# Altium footprint library SMD Magnetics.PcbLib: 48 footprints (part 1 of 3)
Each footprint in its own frame and in the unit in brackets; x right, y up, seen from the top. Pads: shape width x height; smd on the part's side, far side on the other; paste and mask are expansions set on the pad; w line width, h text height; cw(c..) or ccw(c..) is an arc to the next point about the centre after c.
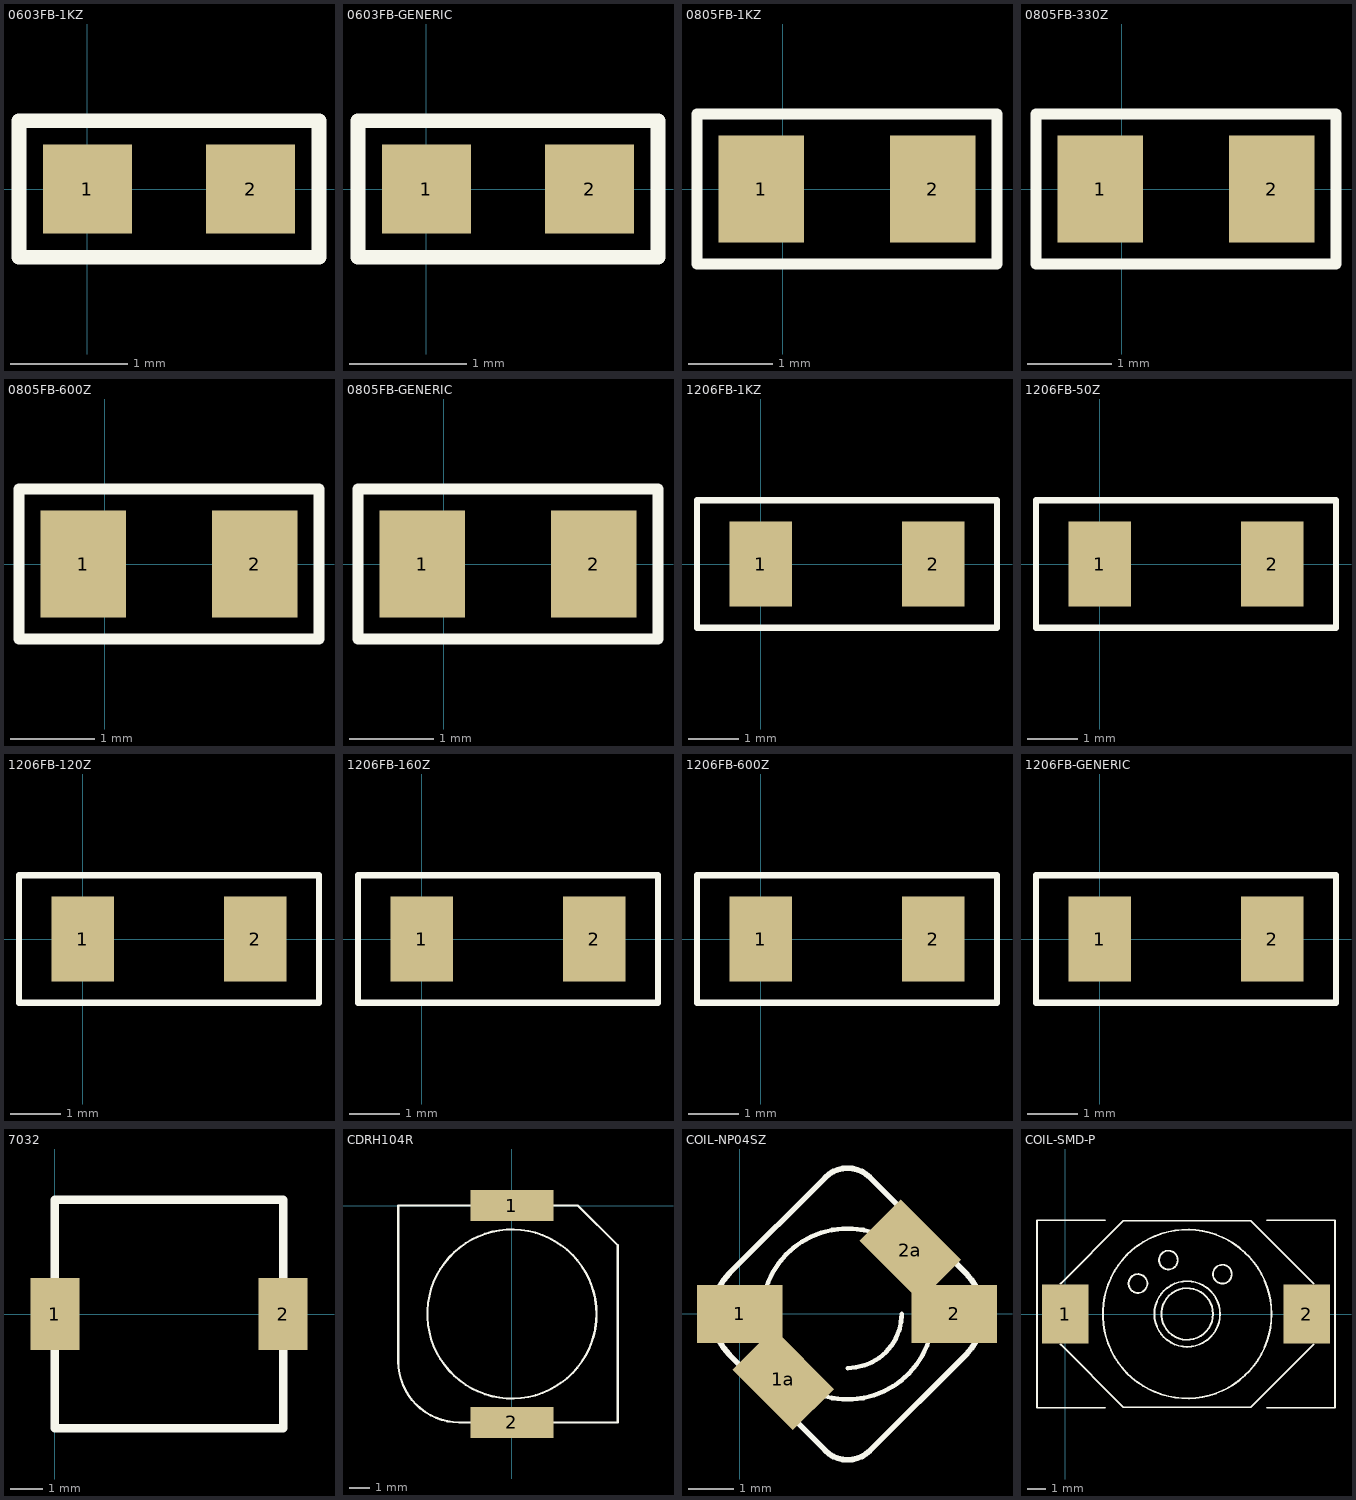
[diagram p0: the footprints below, top view; thin cyan lines are the x and y axes]

## 0603FB-1KZ [mil] "FERRITE BEAD 0603"
pads (2):
  rect 30x30 smd: 1(0,0) 2(55,0)
Top Overlay:
  lines w5: -23,-23 -23,23 78,23 78,-23 -23,-23
3D body: height 20, standoff 19, extent 16.5,-5 21.5,5
3D body: height 20, standoff 19, extent 31.5,-5 36.5,5
3D body: height 20, standoff 19, extent 24,-5 29,5
3D body: height 19, standoff 0, extent -4,-15 12,15
3D body: height 19, standoff 0, extent 43,-15 59,15
3D body: height 18, standoff 0, extent -3,-14 58,14

## 0603FB-GENERIC [mil] "FERRITE BEAD 0603"
pads (2):
  rect 30x30 smd: 1(0,0) 2(55,0)
Top Overlay:
  lines w5: -23,-23 78,-23 78,23 -23,23 -23,-23
3D body: height 20, standoff 19, extent 14.5,-10.5 19.5,-0.5
3D body: height 20, standoff 19, extent 22,-10.5 27,-0.5
3D body: height 20, standoff 19, extent 29.5,-10.5 34.5,-0.5
3D body: height 20, standoff 19, extent 7,-10.5 12,-0.5
3D body: height 20, standoff 19, extent 36.5,1.5 41.5,11.5
3D body: height 20, standoff 19, extent 14,1.5 19,11.5
3D body: height 20, standoff 19, extent 6.5,1.5 11.5,11.5
3D body: height 20, standoff 19, extent 21.5,1.5 26.5,11.5
3D body: height 20, standoff 19, extent 29,1.5 34,11.5
3D body: height 20, standoff 19, extent 37,-10.5 42,-0.5
3D body: height 18, standoff 0, extent -3,-14 58,14
3D body: height 19, standoff 0, extent 43,-15 59,15
3D body: height 19, standoff 0, extent -4,-15 12,15
3D body: height 20, standoff 19, extent 44,1.5 49,11.5
3D body: height 20, standoff 19, extent 44,-11 49,-1

## 0805FB-1KZ [mil] "FERRITE BEAD 0805"
pads (2):
  rect 40x50 smd: 1(-10,0) 2(70,0)
Top Overlay:
  lines w5: -40,-35 -40,35 100,35 100,-35 -40,-35
3D body: height 26, standoff 0, extent 54,-25 70,25
3D body: height 26, standoff 0, extent -11,-25 5,25
3D body: height 25, standoff 0, extent -10,-24 69,24
3D body: height 26, standoff 25, extent 27.5,-5.5 32.5,4.5
3D body: height 26, standoff 25, extent 35,-5.5 40,4.5
3D body: height 26, standoff 25, extent 20,-5.5 25,4.5

## 0805FB-330Z [mil] "FERRITE BEAD 0805"
pads (2):
  rect 40x50 smd: 1(-10,0) 2(70,0)
Top Overlay:
  lines w5: -40,-35 100,-35 100,35 -40,35 -40,-35
3D body: height 26, standoff 25, extent 36,-5 41,5
3D body: height 26, standoff 25, extent 21,-5 26,5
3D body: height 26, standoff 25, extent 28.5,-5 33.5,5
3D body: height 25, standoff 0, extent -10,-24 69,24
3D body: height 26, standoff 0, extent -11,-25 5,25
3D body: height 26, standoff 0, extent 54,-25 70,25
3D body: height 26, standoff 25, extent 13.5,-5 18.5,5

## 0805FB-600Z [mil] "FERRITE BEAD 0805"
pads (2):
  rect 40x50 smd: 1(-10,0) 2(70,0)
Top Overlay:
  lines w5: -40,-35 -40,35 100,35 100,-35 -40,-35
3D body: height 26, standoff 25, extent 30,-5.5 35,4.5
3D body: height 26, standoff 0, extent 54,-25 70,25
3D body: height 26, standoff 0, extent -11,-25 5,25
3D body: height 25, standoff 0, extent -10,-24 69,24
3D body: height 26, standoff 25, extent 15,-5.5 20,4.5
3D body: height 26, standoff 25, extent 22.5,-5.5 27.5,4.5
3D body: height 26, standoff 25, extent 37.5,-5.5 42.5,4.5

## 0805FB-GENERIC [mil] "FERRITE BEAD 0805"
pads (2):
  rect 40x50 smd: 1(-10,0) 2(70,0)
Top Overlay:
  lines w5: -40,-35 100,-35 100,35 -40,35 -40,-35
3D body: height 25, standoff 0, extent -10,-24 69,24
3D body: height 26, standoff 0, extent -11,-25 5,25
3D body: height 26, standoff 0, extent 54,-25 70,25
3D body: height 26, standoff 25, extent 18,-12 23,-2
3D body: height 26, standoff 25, extent 25.5,-12 30.5,-2
3D body: height 26, standoff 25, extent 33,-12 38,-2
3D body: height 26, standoff 25, extent 10.5,-12 15.5,-2
3D body: height 26, standoff 25, extent 40,0 45,10
3D body: height 26, standoff 25, extent 17.5,0 22.5,10
3D body: height 26, standoff 25, extent 10,0 15,10
3D body: height 26, standoff 25, extent 25,0 30,10
3D body: height 26, standoff 25, extent 32.5,0 37.5,10
3D body: height 26, standoff 25, extent 40.5,-12 45.5,-2
3D body: height 26, standoff 25, extent 47.5,0 52.5,10
3D body: height 26, standoff 25, extent 47.5,-12.5 52.5,-2.5

## 1206FB-1KZ [mm] "FERRITE BEAD 1206"
pads (2):
  rect 1.25x1.7 smd: 1(0,0) 2(3.429,0)
Top Overlay:
  lines w0.127: -1.27,-1.27 4.699,-1.27 4.699,1.27 -1.27,1.27 -1.27,-1.27
3D body: height 0.81, standoff 0, extent 0.133,-0.8 3.296,0.787
3D body: height 0.84, standoff 0, extent 0.114,-0.813 0.521,0.8
3D body: height 0.84, standoff 0, extent 2.908,-0.813 3.315,0.8
3D body: height 0.84, standoff 0.81, extent 1.27,-0.14 1.46,0.241
3D body: height 0.84, standoff 0.81, extent 1.524,-0.14 1.714,0.241
3D body: height 0.84, standoff 0.81, extent 1.778,-0.14 1.968,0.241

## 1206FB-50Z [mm] "FERRITE BEAD 1206"
pads (2):
  rect 1.25x1.7 smd: 1(0,0) 2(3.429,0)
Top Overlay:
  lines w0.127: -1.27,-1.27 -1.27,1.27 4.699,1.27 4.699,-1.27 -1.27,-1.27
3D body: height 0.84, standoff 0.81, extent 2.235,-0.445 2.426,-0.064
3D body: height 0.84, standoff 0.81, extent 1.943,-0.445 2.134,-0.064
3D body: height 0.84, standoff 0.81, extent 1.689,-0.445 1.88,-0.064
3D body: height 0.84, standoff 0.81, extent 0.927,-0.445 1.118,-0.064
3D body: height 0.84, standoff 0.81, extent 1.435,-0.445 1.626,-0.064
3D body: height 0.84, standoff 0.81, extent 1.714,0 1.905,0.381
3D body: height 0.84, standoff 0.81, extent 1.46,0 1.651,0.381
3D body: height 0.84, standoff 0.81, extent 1.206,0 1.397,0.381
3D body: height 0.84, standoff 0.81, extent 0.953,0 1.143,0.381
3D body: height 0.84, standoff 0.81, extent 1.181,-0.445 1.372,-0.064
3D body: height 0.84, standoff 0, extent 2.908,-0.813 3.315,0.8
3D body: height 0.84, standoff 0, extent 0.114,-0.813 0.521,0.8
3D body: height 0.81, standoff 0, extent 0.133,-0.8 3.296,0.787
3D body: height 0.84, standoff 0.81, extent 1.968,0 2.159,0.381
3D body: height 0.84, standoff 0.81, extent 2.222,0 2.413,0.381

## 1206FB-120Z [mm] "FERRITE BEAD 1206"
pads (2):
  rect 1.25x1.7 smd: 1(0,0) 2(3.429,0)
Top Overlay:
  lines w0.127: -1.27,-1.27 -1.27,1.27 4.699,1.27 4.699,-1.27 -1.27,-1.27
3D body: height 0.84, standoff 0.81, extent 2.235,-0.445 2.426,-0.064
3D body: height 0.84, standoff 0.81, extent 1.943,-0.445 2.134,-0.064
3D body: height 0.84, standoff 0.81, extent 1.689,-0.445 1.88,-0.064
3D body: height 0.84, standoff 0.81, extent 0.927,-0.445 1.118,-0.064
3D body: height 0.84, standoff 0.81, extent 1.435,-0.445 1.626,-0.064
3D body: height 0.84, standoff 0.81, extent 1.714,0 1.905,0.381
3D body: height 0.84, standoff 0.81, extent 1.46,0 1.651,0.381
3D body: height 0.84, standoff 0.81, extent 1.206,0 1.397,0.381
3D body: height 0.84, standoff 0.81, extent 0.953,0 1.143,0.381
3D body: height 0.84, standoff 0.81, extent 1.181,-0.445 1.372,-0.064
3D body: height 0.84, standoff 0, extent 2.908,-0.813 3.315,0.8
3D body: height 0.84, standoff 0, extent 0.114,-0.813 0.521,0.8
3D body: height 0.81, standoff 0, extent 0.133,-0.8 3.296,0.787
3D body: height 0.84, standoff 0.81, extent 1.968,0 2.159,0.381
3D body: height 0.84, standoff 0.81, extent 2.222,0 2.413,0.381

## 1206FB-160Z [mm] "FERRITE BEAD 1206"
pads (2):
  rect 1.25x1.7 smd: 1(0,0) 2(3.429,0)
Top Overlay:
  lines w0.127: -1.27,-1.27 -1.27,1.27 4.699,1.27 4.699,-1.27 -1.27,-1.27
3D body: height 0.84, standoff 0.81, extent 2.235,-0.445 2.426,-0.064
3D body: height 0.84, standoff 0.81, extent 1.943,-0.445 2.134,-0.064
3D body: height 0.84, standoff 0.81, extent 1.689,-0.445 1.88,-0.064
3D body: height 0.84, standoff 0.81, extent 0.927,-0.445 1.118,-0.064
3D body: height 0.84, standoff 0.81, extent 1.435,-0.445 1.626,-0.064
3D body: height 0.84, standoff 0.81, extent 1.714,0 1.905,0.381
3D body: height 0.84, standoff 0.81, extent 1.46,0 1.651,0.381
3D body: height 0.84, standoff 0.81, extent 1.206,0 1.397,0.381
3D body: height 0.84, standoff 0.81, extent 0.953,0 1.143,0.381
3D body: height 0.84, standoff 0.81, extent 1.181,-0.445 1.372,-0.064
3D body: height 0.84, standoff 0, extent 2.908,-0.813 3.315,0.8
3D body: height 0.84, standoff 0, extent 0.114,-0.813 0.521,0.8
3D body: height 0.81, standoff 0, extent 0.133,-0.8 3.296,0.787
3D body: height 0.84, standoff 0.81, extent 1.968,0 2.159,0.381
3D body: height 0.84, standoff 0.81, extent 2.222,0 2.413,0.381

## 1206FB-600Z [mm] "FERRITE BEAD 1206"
pads (2):
  rect 1.25x1.7 smd: 1(0,0) 2(3.429,0)
Top Overlay:
  lines w0.127: -1.27,-1.27 -1.27,1.27 4.699,1.27 4.699,-1.27 -1.27,-1.27
3D body: height 0.84, standoff 0.81, extent 2.235,-0.368 2.426,0.013
3D body: height 0.84, standoff 0.81, extent 1.918,-0.368 2.159,-0.114
3D body: height 0.84, standoff 0.81, extent 1.664,-0.368 1.854,0.013
3D body: height 0.84, standoff 0.81, extent 1.41,-0.368 1.6,0.013
3D body: height 0.84, standoff 0.81, extent 1.918,0.076 2.108,0.457
3D body: height 0.84, standoff 0.81, extent 1.156,0.076 1.346,0.457
3D body: height 0.84, standoff 0, extent 2.908,-0.813 3.315,0.8
3D body: height 0.84, standoff 0, extent 0.114,-0.813 0.521,0.8
3D body: height 0.81, standoff 0, extent 0.133,-0.8 3.296,0.787
3D body: height 0.84, standoff 0.81, extent 1.156,-0.368 1.346,0.013
3D body: height 0.84, standoff 0.81, extent 1.41,0.076 1.6,0.457
3D body: height 0.84, standoff 0.81, extent 1.664,0.076 1.854,0.457

## 1206FB-GENERIC [mm] "FERRITE BEAD 1206"
pads (2):
  rect 1.25x1.7 smd: 1(0,0) 2(3.429,0)
Top Overlay:
  lines w0.127: -1.27,-1.27 4.699,-1.27 4.699,1.27 -1.27,1.27 -1.27,-1.27
3D body: height 1.55, standoff 1.52, extent 2.502,0 2.692,0.381
3D body: height 1.55, standoff 1.52, extent 2.502,-0.445 2.692,-0.064
3D body: height 1.55, standoff 1.52, extent 2.222,0 2.413,0.381
3D body: height 1.55, standoff 1.52, extent 1.968,0 2.159,0.381
3D body: height 0.81, standoff 0, extent 0.133,-0.8 3.296,0.787
3D body: height 0.84, standoff 0, extent 0.114,-0.813 0.521,0.8
3D body: height 0.84, standoff 0, extent 2.908,-0.813 3.315,0.8
3D body: height 1.55, standoff 1.52, extent 1.181,-0.445 1.372,-0.064
3D body: height 1.55, standoff 1.52, extent 0.953,0 1.143,0.381
3D body: height 1.55, standoff 1.52, extent 1.206,0 1.397,0.381
3D body: height 1.55, standoff 1.52, extent 1.46,0 1.651,0.381
3D body: height 1.55, standoff 1.52, extent 1.714,0 1.905,0.381
3D body: height 1.55, standoff 1.52, extent 1.435,-0.445 1.626,-0.064
3D body: height 1.55, standoff 1.52, extent 0.927,-0.445 1.118,-0.064
3D body: height 1.55, standoff 1.52, extent 1.689,-0.445 1.88,-0.064
3D body: height 1.55, standoff 1.52, extent 1.943,-0.445 2.134,-0.064
3D body: height 1.55, standoff 1.52, extent 2.235,-0.445 2.426,-0.064

## 7032 [mm]
pads (2):
  rect 1.5x2.2 smd: 1(0,0) 2(7,0)
Top Overlay:
  lines w0.254: 0,-3.5 0,3.5 7,3.5 7,-3.5 0,-3.5

## CDRH104R [mm]
pads (2):
  rect 4x1.5 smd: 1(0,0) 2(0,-10.414)
Top Overlay:
  circle w0.102: c0,-5.207 r4.064
  lines w0.102: -5.461,-7.493 ccw(c-2.54,-7.493) -2.54,-10.414 5.08,-10.414 5.08,-1.905 3.175,0 -5.461,0 -5.461,-5.461 -5.461,-7.493

## COIL-NP04SZ [mm]
pads (4):
  rect 1.9x1.3 smd: 1(0,0) 2(4.775,0)
  rect 1.3x1.9 smd rot 45: 1a(0.967,-1.457) 2a(3.792,1.417)
Top Overlay:
  circle w0.102: c2.4,0 r1.903
  lines w0.102: 2.4,-1.204 ccw(c2.4,0) 3.604,0
  lines w0.127: -0.236,-0.898 cw(c0.662,0) -0.236,0.898 1.906,3.04 cw(c2.401,2.545) 2.896,3.04 5.039,0.898 cw(c4.141,0) 5.039,-0.898 2.896,-3.041 cw(c2.401,-2.546) 1.906,-3.041 -0.236,-0.898

## COIL-SMD-P [mil]
pads (2):
  rect 100x125 smd: 1(0,0) 2(515,0)
Top Overlay:
  circle w4: c260,0 r180
  circle w4: c260,0 r55
  circle w4: c260,0 r70
  circle w4: c220,115 r20
  circle w4: c155,65 r20
  circle w4: c335,85 r20
  lines w4: -10,-65 123.98,-198.98 260,-198.98 396.02,-198.98 530,-65 ; -10,65 123.98,198.98 260,198.98 396.02,198.98 530,65 ; 85,-200 -60,-200 -60,0 -60,200 85,200 ; 430,-200 575,-200 575,0 575,200 430,200